# Altium schematic symbol library MPL3115A2R1.SchLib: 1 symbol
Pins are listed as number, name and electrical type; pins without a type are passive.

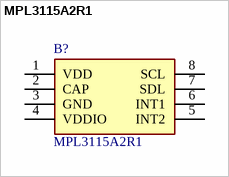
[diagram p0: symbol MPL3115A2R1]

## MPL3115A2R1
designator B?
NXP - MPL3115A2R1 - Pressure Sensor, 2.5V, 20/110kPa, LGA 8 31W9130; Geometry.Height: 1.2mm; Manufacturer_Name: NXP; Manufacturer_Part_Number: MPL3115A2R1; Mouser Part Number: 841-MPL3115A2R1; Mouser Price/Stock: https://www.mouser.co.uk/ProductDetail/NXP-Semiconductors/MPL3115A2R1?qs=6ddF3R%2F6EV%2Fx8daKoNGetQ%3D%3D; Arrow Part Number: MPL3115A2R1; Arrow Price/Stock: https://www.arrow.com/en/products/mpl3115a2r1/nxp-semiconductors?region=nac; Datasheet Link: http://www.nxp.com/docs/en/data-sheet/MPL3115A2.pdf
footprint MPL3115A2R1
pins: 1 VDD, 2 CAP, 3 GND, 4 VDDIO, 5 INT2, 6 INT1, 7 SDL, 8 SCL